# Altium footprint library 66202021022.PcbLib: 1 footprints
Each footprint in its own frame and in the unit in brackets; x right, y up, seen from the top. Pads: shape width x height; smd on the part's side, far side on the other; paste and mask are expansions set on the pad; w line width, h text height; cw(c..) or ccw(c..) is an arc to the next point about the centre after c.
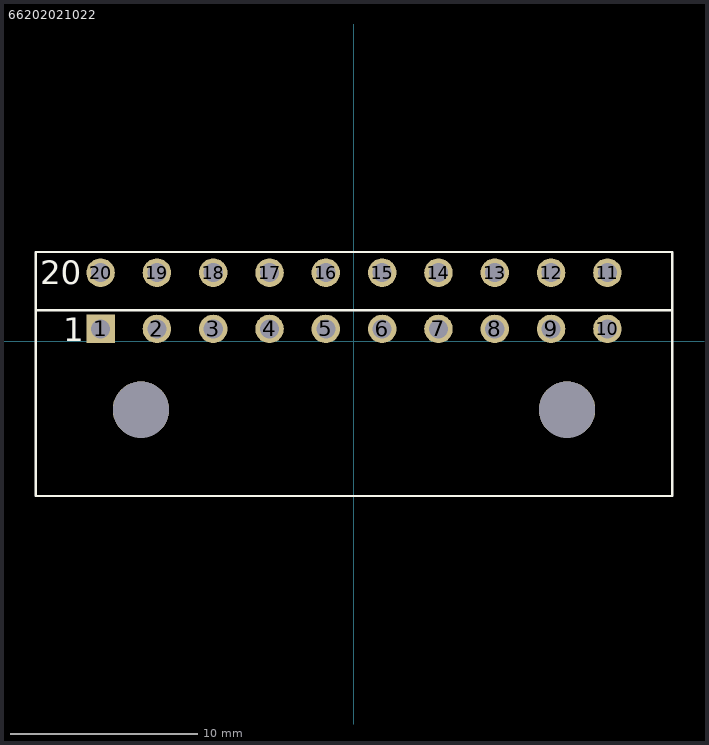
[diagram p0: the footprint, top view; thin cyan lines are the x and y axes]

## 66202021022 [mm] "Dual row Right angle header With plastic peg 20p"
height 8.76
pads (22):
  rect 1.52x1.52 hole 1.02: 1(-13.5,0.65)
  round 1.52 hole 1.02: 2(-10.5,0.65) 3(-7.5,0.65) 4(-4.5,0.65) 5(-1.5,0.65) 6(1.5,0.65) 7(4.5,0.65) 8(7.5,0.65) 9(10.5,0.65) 10(13.5,0.65) 11(13.5,3.65) 12(10.5,3.65) 13(7.5,3.65) 14(4.5,3.65) 15(1.5,3.65) 16(-1.5,3.65) 17(-4.5,3.65) 18(-7.5,3.65) 19(-10.5,3.65) 20(-13.5,3.65)
  round 3 hole 3 unplated: ""(-11.35,-3.65) ""(11.35,-3.65)
Top Overlay:
  lines w0.127: 16.95,1.65 16.95,-8.25 ; 16.95,1.65 -16.95,1.65 -16.95,-8.25 ; -16.95,-8.25 -16.95,4.75 16.95,4.75 16.95,-8.25 ; -16.95,-8.25 16.95,-8.25 ; -16.95,-8.25 16.95,-8.25
  text "20" at -16.726,3.039 h1.27
  text "1" at -15.5,0 h1.27
3D body "66202021022.stp": height 8.78, standoff -3.18, extent -16.85,-8.25 16.85,3.97